# EAGLE library part MRF89XAM (library thomas_library)
The MRF89XAM are 868MHz and 915MHz transciever modules from Microchip, based on the MRF89XA transciever IC, which include an integrated antenna and FCC certification.
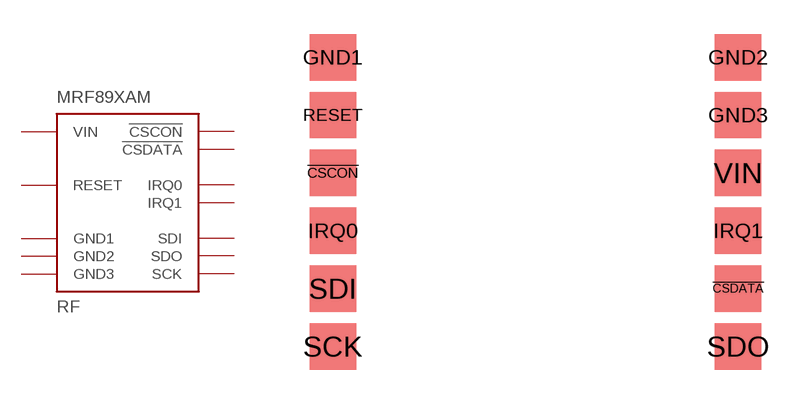
[diagram p15: symbol with the pads of MRF89XAM; footprint MRF89XAM]

Designator prefix RF

## MRF89XAM  [MRF89XAM]
!CSCON  !CSCON
!CSDATA  !CSDATA
GND1  GND1
GND2  GND2
GND3  GND3
IRQ0  IRQ0
IRQ1  IRQ1
RESET  RESET
SCK  SCK
SDI  SDI
SDO  SDO
VIN  VIN

## Footprint MRF89XAM (pad centres in mm)
This is a footprint for the MRF89XAM radio module from Microchip. Validated 7/30/2013.
smd 2.032 x 2.032: !CSCON -8.89,1.27; !CSDATA 8.89,-3.81; GND1 -8.89,6.35; GND2 8.89,6.35; GND3 8.89,3.81; IRQ0 -8.89,-1.27; IRQ1 8.89,-1.27; RESET -8.89,3.81; SCK -8.89,-6.35; SDI -8.89,-3.81; SDO 8.89,-6.35; VIN 8.89,1.27